# EAGLE library part R210 (library dec-m)
PDP8 Accumulator Slice
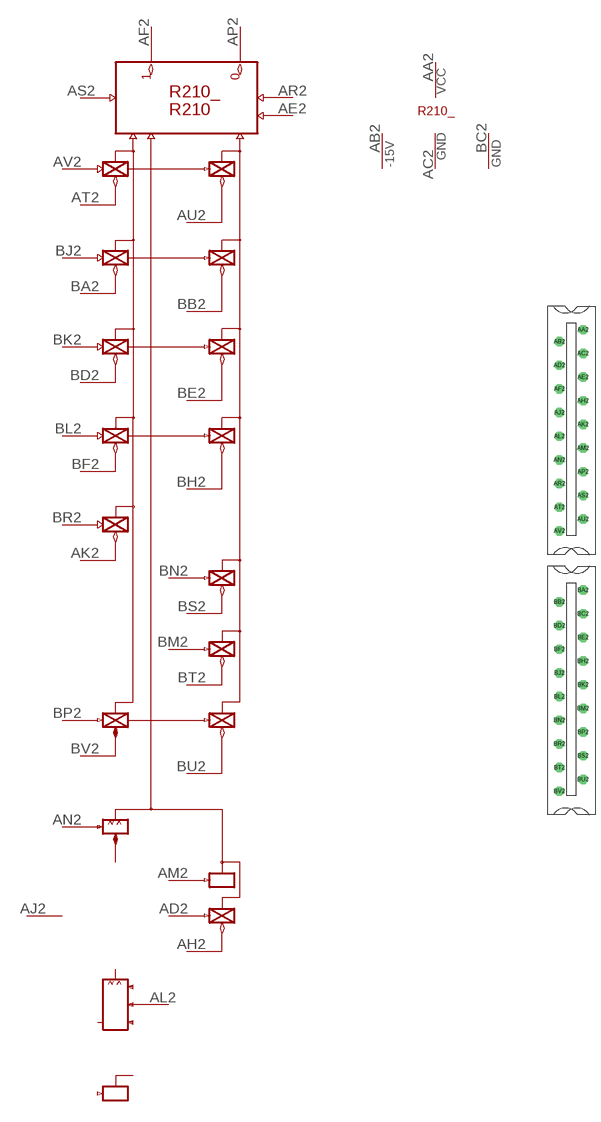
[diagram p121: symbol with the pads of H800-2; footprint H800-2]

Designator prefix R210_; gates G$1=R210 G$2=-15V G$3=POWER G$4=GND

## R210  [H800-2]
AA2  G$3:VCC  pwr
AB2  G$2:-15V  pwr
AC2  G$3:GND  pwr
AD2  G$1:AD  in
AE2  G$1:AE  in
AF2  G$1:AF  oc
AH2  G$1:AH  in
AJ2  G$1:AJ  in
AK2  G$1:AK  in
AL2  G$1:AL  in
AM2  G$1:AM  in
AN2  G$1:AN  in
AP2  G$1:AP  oc
AR2  G$1:AR  in
AS2  G$1:AS  in
AT2  G$1:AT  in
AU2  G$1:AU  in
AV2  G$1:AV  in
BA2  G$1:BA  in
BB2  G$1:BB  in
BC2  G$4:GND  pwr
BD2  G$1:BD  in
BE2  G$1:BE  in
BF2  G$1:BF  in
BH2  G$1:BH  in
BJ2  G$1:BJ  in
BK2  G$1:BK  in
BL2  G$1:BL  in
BM2  G$1:BM  in
BN2  G$1:BN  in
BP2  G$1:BP  in
BR2  G$1:BR  in
BS2  G$1:BS  in
BT2  G$1:BT  in
BU2  G$1:BU  in
BV2  G$1:BV  in

## Footprint H800-2 (pad centres in mm)
Two-wide Female Edge Connector
drill 1.676 octagon: AA2 3.175,60.325; AB2 -3.175,57.15; AC2 3.175,53.975; AD2 -3.175,50.8; AE2 3.175,47.625; AF2 -3.175,44.45; AH2 3.175,41.275; AJ2 -3.175,38.1; AK2 3.175,34.925; AL2 -3.175,31.75; AM2 3.175,28.575; AN2 -3.175,25.4; AP2 3.175,22.225; AR2 -3.175,19.05; AS2 3.175,15.875; AT2 -3.175,12.7; AU2 3.175,9.525; AV2 -3.175,6.35; BA2 3.175,-9.525; BB2 -3.175,-12.7; BC2 3.175,-15.875; BD2 -3.175,-19.05; BE2 3.175,-22.225; BF2 -3.175,-25.4; BH2 3.175,-28.575; BJ2 -3.175,-31.75; BK2 3.175,-34.925; BL2 -3.175,-38.1; BM2 3.175,-41.275; BN2 -3.175,-44.45; BP2 3.175,-47.625; BR2 -3.175,-50.8; BS2 3.175,-53.975; BT2 -3.175,-57.15; BU2 3.175,-60.325; BV2 -3.175,-63.5